# EAGLE library part ESP_WROOM_32_DEV (library blizzard_board)
ESP Wroom 32
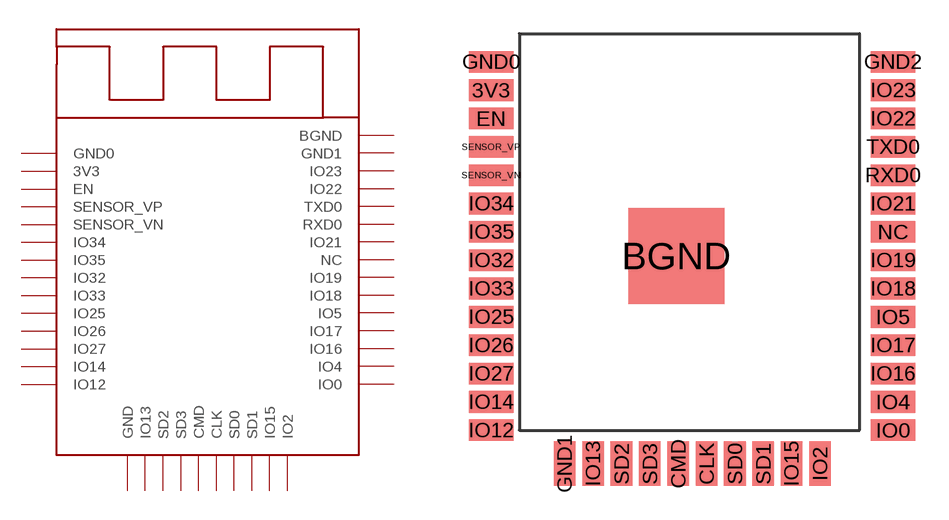
[diagram p1: symbol with the pads of ESP_WROOM_32_PKG; footprint ESP_WROOM_32_PKG]

Designator prefix U

## ESP_WROOM_32_DEV  [ESP_WROOM_32_PKG]
3V3  3V3
BGND  BGND
CLK  CLK
CMD  CMD
EN  EN
GND0  GND
GND1  GND0
GND2  GND1
IO0  IO0
IO2  IO2
IO4  IO4
IO5  IO5
IO12  IO12
IO13  IO13
IO14  IO14
IO15  IO15
IO16  IO16
IO17  IO17
IO18  IO18
IO19  IO19
IO21  IO21
IO22  IO22
IO23  IO23
IO25  IO25
IO26  IO26
IO27  IO27
IO32  IO32
IO33  IO33
IO34  IO34
IO35  IO35
NC  NC
RXD0  RXD0
SD0  SD0
SD1  SD1
SD2  SD2
SD3  SD3
SENSOR_VN  SENSOR_VN
SENSOR_VP  SENSOR_VP
TXD0  TXD0

## Footprint ESP_WROOM_32_PKG (pad centres in mm)
ESP Wroom 32 footprint
smd 2 x 0.97: 3V3 0,15.24; EN 0,13.97; GND0 0,16.51; GND2 18,16.51; IO0 18,0; IO4 18,1.27; IO5 18,5.08; IO12 0,0; IO14 0,1.27; IO16 18,2.54; IO17 18,3.81; IO18 18,6.35; IO19 18,7.62; IO21 18,10.16; IO22 18,13.97; IO23 18,15.24; IO25 0,5.08; IO26 0,3.81; IO27 0,2.54; IO32 0,7.62; IO33 0,6.35; IO34 0,10.16; IO35 0,8.89; NC 18,8.89; RXD0 18,11.43; SENSOR_VN 0,11.43; SENSOR_VP 0,12.7; TXD0 18,12.7
smd 4.3 x 4.3: BGND 8.3,7.8
smd 0.97 x 2: CLK 9.65,-1.5; CMD 8.38,-1.5; GND1 3.3,-1.5; IO2 14.73,-1.5; IO13 4.57,-1.5; IO15 13.46,-1.5; SD0 10.92,-1.5; SD1 12.19,-1.5; SD2 5.84,-1.5; SD3 7.11,-1.5